# Altium schematic symbol library CRCW12104K70JNEA.SchLib: 1 symbol
Pins are listed as number, name and electrical type; pins without a type are passive.

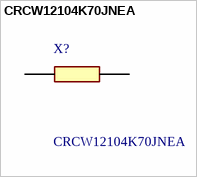
[diagram p0: symbol CRCW12104K70JNEA]

## CRCW12104K70JNEA
designator X?
RESISTOR, 1210 4.7K Ohm +/-5% 0.5W; Manufacturer_Name: Vishay; Geometry.Height: 0.6mm; Manufacturer_Part_Number: CRCW12104K70JNEA; Mouser Part Number: 71-CRCW1210J-4.7K-E3; Mouser Price/Stock: https://www.mouser.co.uk/ProductDetail/Vishay-Dale/CRCW12104K70JNEA?qs=%2FqQFlUriJiy4FdqFuj0GnQ%3D%3D; Arrow Part Number: CRCW12104K70JNEA; Arrow Price/Stock: https://www.arrow.com/en/products/crcw12104k70jnea/vishay; Datasheet Link: *
footprint RESC3225X60N
pins: 1, 2